# Altium footprint library WFHC.PcbLib: 33 footprints (part 2 of 3)
Each footprint in its own frame and in the unit in brackets; x right, y up, seen from the top. Pads: shape width x height; smd on the part's side, far side on the other; paste and mask are expansions set on the pad; w line width, h text height; cw(c..) or ccw(c..) is an arc to the next point about the centre after c.
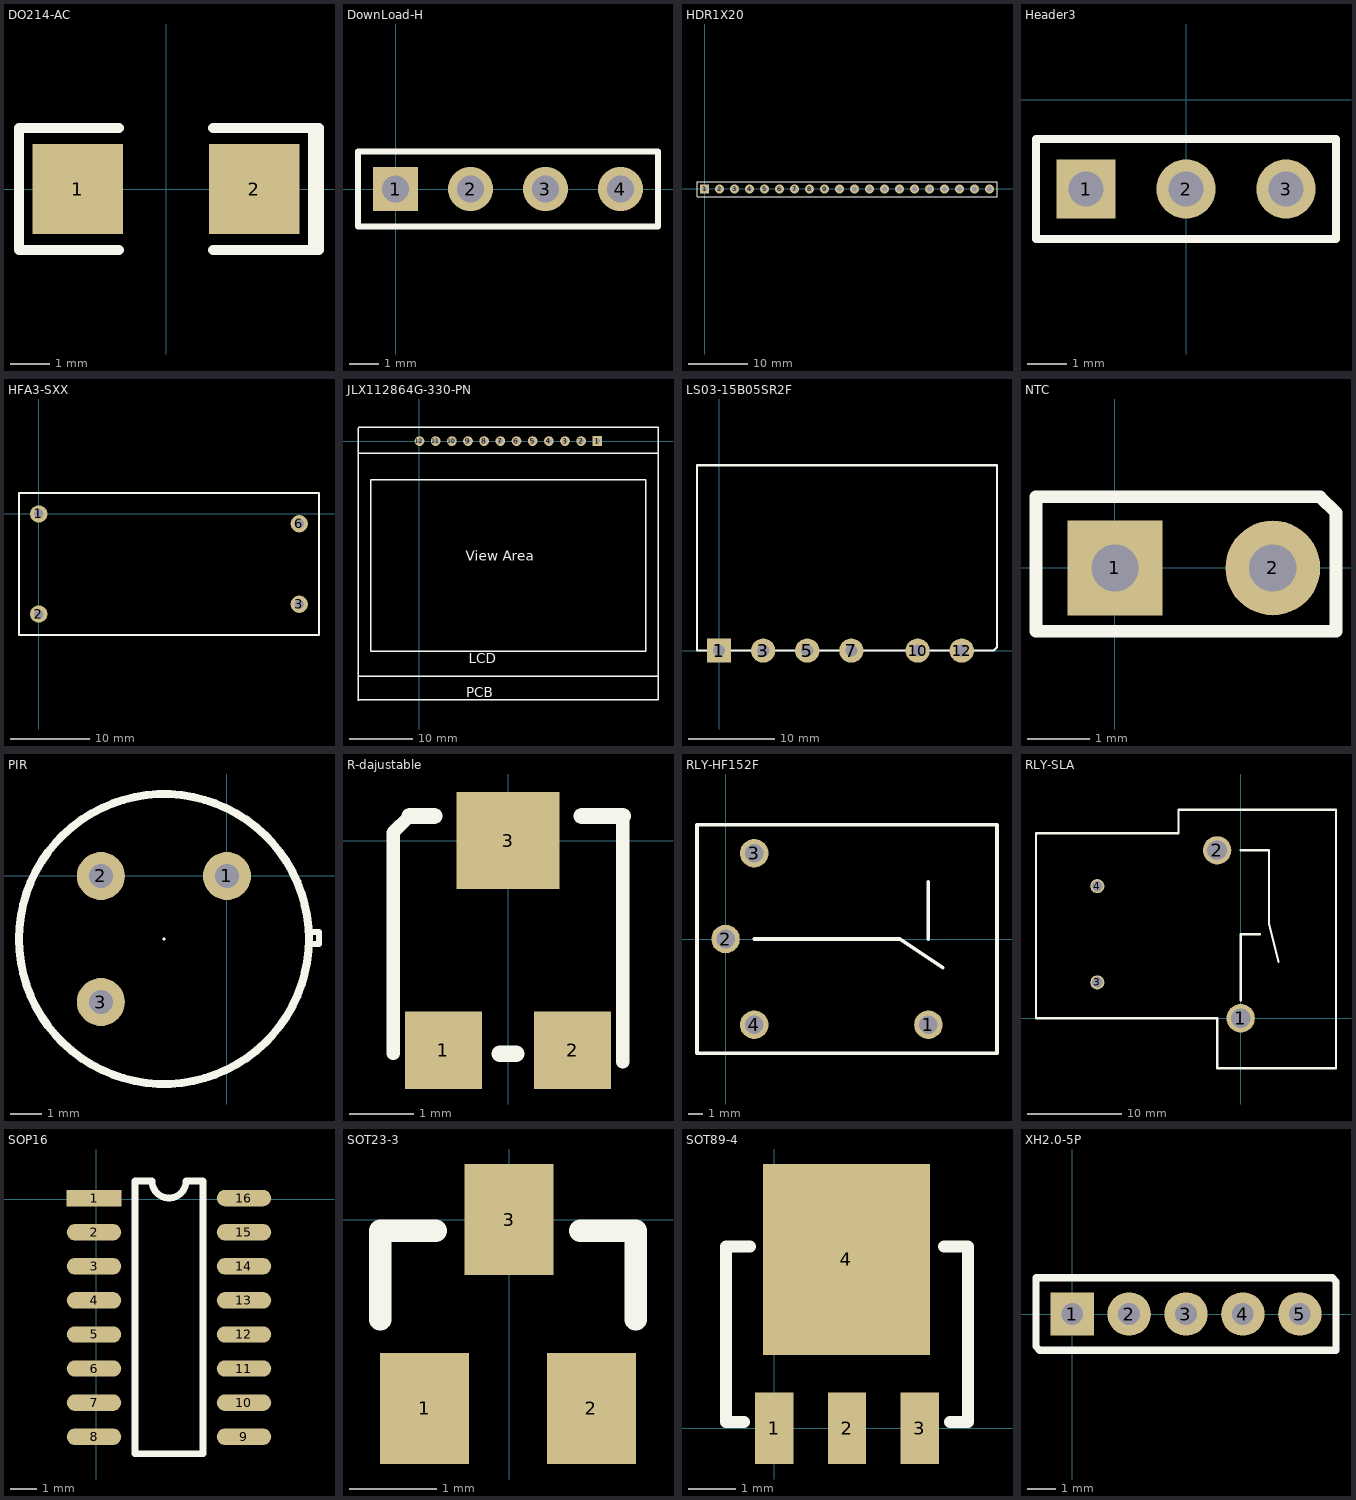
[diagram p1: the footprints below, top view; thin cyan lines are the x and y axes]

## DO214-AC [mm]
pads (2):
  rect 2.3x2.3 smd: 1(-2.25,0) 2(2.25,0)
Top Overlay:
  lines w0.254: -1.2,-1.55 -3.75,-1.55 -3.75,1.55 -1.2,1.55 ; 1.2,-1.55 3.9,-1.55 3.9,1.55 1.2,1.55 ; 3.75,-1.55 3.75,1.55

## DownLoad-H [mm]
pads (4):
  rect 1.52x1.5 hole 0.9: 1(0,0)
  oval 1.52x1.5 hole 0.9: 2(2.54,0) 3(5.08,0) 4(7.62,0)
Top Overlay:
  lines w0.203: -1.27,-1.27 -1.27,1.27 8.89,1.27 8.89,-1.27 -1.27,-1.27

## HDR1X20 [mm]
pads (20):
  rect 1.5x1.5 hole 0.9: 1(0,0)
  round 1.5 hole 0.9: 2(2.54,0) 3(5.08,0) 4(7.62,0) 5(10.16,0) 6(12.7,0) 7(15.24,0) 8(17.78,0) 9(20.32,0) 10(22.86,0) 11(25.4,0) 12(27.94,0) 13(30.48,0) 14(33.02,0) 15(35.56,0) 16(38.1,0) 17(40.64,0) 18(43.18,0) 19(45.72,0) 20(48.26,0)
Top Overlay:
  lines w0.2: -1.27,-1.27 49.53,-1.27 49.53,1.27 0.635,1.27 -1.27,1.27 -1.27,-1.27

## Header3 [mm]
pads (3):
  rect 1.5x1.5 hole 0.9: 1(-2.54,-2.27)
  round 1.5 hole 0.9: 2(0,-2.27) 3(2.54,-2.27)
Top Overlay:
  lines w0.2: -3.81,-3.54 3.81,-3.54 3.81,-1 -3.81,-1 -3.81,-3.54

## HFA3-SXX [mm]
pads (4):
  round 2.2 hole 1.2: 1(0,0) 2(0,-12.7) 3(33,-11.45) 6(33,-1.25)
Top Overlay:
  lines w0.254: -2.5,-15.35 -2.5,2.65 35.5,2.65 35.5,-15.35 -2.5,-15.35

## JLX112864G-330-PN [mil]
pads (12):
  rect 60x60 hole 32: 1(1100,0)
  round 60 hole 32: 2(1000,0) 3(900,0) 4(800,0) 6(600,0) 7(500,0) 8(400,0) 9(300,0) 10(200,0) 11(100,0) 12(0,0)
  round 60 hole 30: 5(700,0)
Top Overlay:
  lines w8: -380,-1455 1475,-1455 ; -380,-75 1475,-75 ; -380,-1605 -380,-1510 -380,-270 -380,80 -375,85 -100,85 1475,85 1475,-1600 -375,-1600 -380,-1605 ; -300,-1300 1400,-1300 1400,-240 1175,-240 515,-240 -300,-240 -300,-1300
  text "View Area" at 285,-740 h60
  text "PCB" at 290,-1585 h60
  text "LCD" at 305,-1375 h60

## LS03-15B05SR2F [mm]
pads (6):
  rect 2.8x2.8 hole 1.4: 1(0,0)
  round 2.8 hole 1.4: 3(5.08,0) 5(10.16,0) 7(15.24,0) 10(22.86,0) 12(27.94,0)
Top Overlay:
  lines w0.254: -2.54,0 31.623,0 32.004,0.381 32.004,21.336 -2.54,21.336 -2.54,0

## NTC [mil]
pads (2):
  rect 60x60 hole 30: 1(0,0)
  round 60 hole 30: 2(100,0)
Top Overlay:
  lines w8: -50,-40 140,-40 140,35 130,45 -50,45 -50,-40

## PIR [mil]
pads (4):
  round 60 hole 30: 1(0,0) 2(-157.48,0) 3(-157.48,-157.48)
  round 3.94 on Top Overlay: 4(-78.74,-78.74)
Top Overlay:
  circle w10: c-78.74,-78.74 r181.1
  lines w8: 105,-70 115,-70 115,-85 108.62,-85

## R-dajustable [mm]
pads (3):
  rect 1.2x1.2 smd: 1(-1,-3.25) 2(1,-3.25)
  rect 1.6x1.5 smd: 3(0,0)
Top Overlay:
  lines w0.203: -1.778,-3.302 -1.778,0.127 -1.524,0.381 ; 1.778,-3.429 1.778,0.381
  lines w0.254: -1.524,0.381 -1.143,0.381 ; -0.127,-3.302 0.127,-3.302 ; 1.143,0.381 1.778,0.381

## RLY-HF152F [mm]
pads (4):
  round 2 hole 1.3: 1(14.2,-6) 2(0,0) 3(2,6) 4(2,-6)
Top Overlay:
  lines w0.254: 2,0 12.2,0 15.2,-2 ; 14.2,0 14.2,4 ; -2,-8 -2,8 19,8 19,-8 -2,-8

## RLY-SLA [mm]
pads (4):
  round 3 hole 2.1: 1(0,0) 2(-2.5,17.8)
  round 1.5 hole 1.1: 3(-15.2,3.8) 4(-15.2,14)
Top Overlay:
  lines w0.254: 0,1.9 0,8.9 ; 0,17.8 3,17.8 3,10 4,6 ; 0.012,8.9 2.012,8.9 ; -21.7,0 -2.5,0 -2.5,-5.3 10.1,-5.3 10.1,22.1 -6.6,22.1 -6.6,19.6 -21.7,19.6 -21.7,0

## SOP16 [mil]
pads (16):
  rect 80x24 smd: 1(-3.54,1.97)
  oval 80x24 smd: 2(-3.54,-48.03) 3(-3.54,-98.03) 4(-3.54,-148.03) 5(-3.54,-198.03) 6(-3.54,-248.03) 7(-3.54,-298.03) 8(-3.54,-348.03) 9(216.46,-348.03) 10(216.46,-298.03) 11(216.46,-248.03) 12(216.46,-198.03) 13(216.46,-148.03) 14(216.46,-98.03) 15(216.46,-48.03) 16(216.46,1.97)
Top Overlay:
  lines w10: 56.46,-373.03 156.46,-373.03 156.46,26.97 131.46,26.97 cw(c106.46,26.97) 81.46,26.97 56.46,26.97 56.46,-373.03

## SOT23-3 [mil]
pads (3):
  rect 40x50 smd: 1(-37.99,-85) 2(37.01,-85) 3(0.01,0)
Top Overlay:
  lines w10: -57.99,-45 -57.99,-5 -32.99,-5 ; 32.01,-5 57.01,-5 57.01,-45

## SOT89-4 [mm]
pads (4):
  rect 0.8x1.5 smd: 1(0,0) 2(1.524,0) 3(3.048,0)
  rect 3.5x4 smd: 4(1.512,3.538)
Top Overlay:
  lines w0.254: -0.635,0.127 -1.016,0.127 -1.016,3.81 -0.508,3.81 ; 3.556,3.81 4.064,3.81 4.064,0.127 3.683,0.127

## XH2.0-5P [mil]
pads (5):
  rect 60x60 hole 30: 1(0,0)
  round 60 hole 30: 2(78.74,0) 3(157.48,0) 4(236.22,0) 5(314.96,0)
Top Overlay:
  lines w10: -50,-45 -50,-25 -50,50 360,50 365,45 365,-50 -45,-50 -50,-45